# Altium integrated library 1814948.IntLib: 1 symbol
Pins are listed as number, name and electrical type; pins without a type are passive.

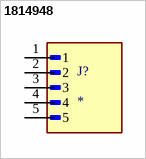
[diagram p0: symbol 1814948]

## 1814948
designator J?
MP: 1814948; Package: None; Price: None; Value: *; Availability: Unavailable
footprint PHOENIX_1814948
pins: 1, 2, 3, 4, 5